# Altium integrated library Renesas Microprocessor SuperH.IntLib: 433 symbols (part 42 of 62)
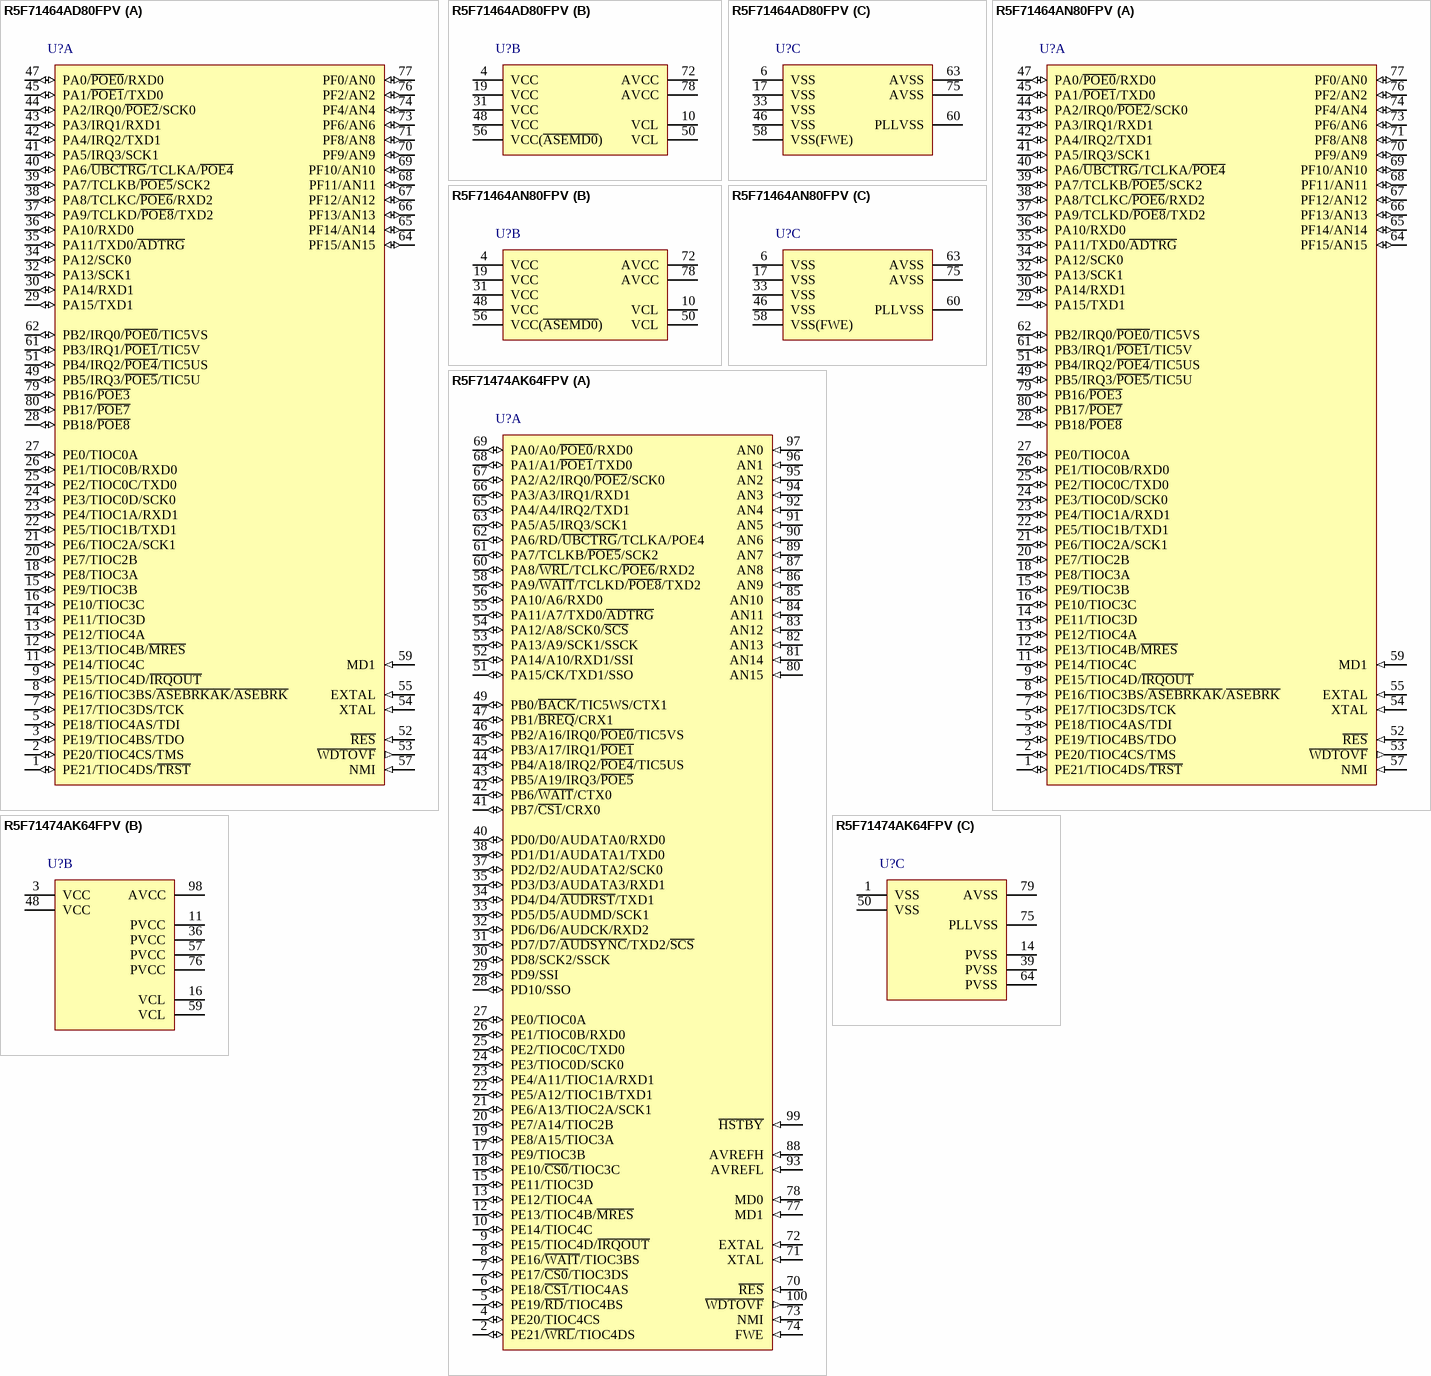
[diagram p406: symbols R5F71464AD80FPV to R5F71474AK64FPV]

## R5F71464AD80FPV
designator U?
32-Bit RISC Microcomputer, SH7146 Series, SH-2 core, 80MHz, 256K ROM, 8K RAM, PLQP0080JA-A (FP-80WV) Package, -40 to 85°C; Published: 28-Aug-2009; DatasheetVersion: Rev.3.00, May-2007; PackageVersion: Sep-2005; PackageReference: PLQP0080JA-A; Publisher: Altium Limited; PackageDescription: 80-Pin Plastic Low Profile QFP, 14 x 14 x 1.4 mm Body, 0.65 mm Pitch; Code_JEITA: P-LQFP80-14x14-0.65; ComponentLink1Description: Manufacturer Link; ComponentLink1URL: http://www.renesas.com/fmwk.jsp?cnt=sh7146_root.jsp&fp=/products/mpumcu/superh_family/sh7146_series/sh7146_group/; ComponentLink2Description: Datasheet; ComponentLink2URL: http://documentation.renesas.com/eng/products/mpumcu/rej09b0229_sh7146hm.pdf; ComponentLink3Description: Packaging Specification; ComponentLink3URL: http://sg.renesas.com/media/products/common_info/package/pdf/ic/code/plqp0080ja_a.pdf
footprint PLQP0080JA-A_N (QFP, 80-Leads, Body 14x14mm, Pitch 0.65mm, IPC Medium Density)
footprint PLQP0080JA-A_L (QFP, 80-Leads, Body 14x14mm, Pitch 0.65mm, IPC High Density)
footprint PLQP0080JA-A_M (QFP, 80-Leads, Body 14x14mm, Pitch 0.65mm, IPC Low Density)
part A pins: 1 PE21/TIOC4DS/~{TRST} (io), 2 PE20/TIOC4CS/TMS (io), 3 PE19/TIOC4BS/TDO (io), 5 PE18/TIOC4AS/TDI (io), 7 PE17/TIOC3DS/TCK (io), 8 PE16/TIOC3BS/~{ASEBRKAK}/~{ASEBRK} (io), 9 PE15/TIOC4D/~{IRQOUT} (io), 11 PE14/TIOC4C (io), 12 PE13/TIOC4B/~{MRES} (io), 13 PE12/TIOC4A (io), 14 PE11/TIOC3D (io), 15 PE9/TIOC3B (io), 16 PE10/TIOC3C (io), 18 PE8/TIOC3A (io), 20 PE7/TIOC2B (io), 21 PE6/TIOC2A/SCK1 (io), 22 PE5/TIOC1B/TXD1 (io), 23 PE4/TIOC1A/RXD1 (io), 24 PE3/TIOC0D/SCK0 (io), 25 PE2/TIOC0C/TXD0 (io), 26 PE1/TIOC0B/RXD0 (io), 27 PE0/TIOC0A (io), 28 PB18/~{POE8} (io), 29 PA15/TXD1 (io), 30 PA14/RXD1 (io), 32 PA13/SCK1 (io), 34 PA12/SCK0 (io), 35 PA11/TXD0/~{ADTRG} (io), 36 PA10/RXD0 (io), 37 PA9/TCLKD/~{POE8}/TXD2 (io), 38 PA8/TCLKC/~{POE6}/RXD2 (io), 39 PA7/TCLKB/~{POE5}/SCK2 (io), 40 PA6/~{UBCTRG}/TCLKA/~{POE4} (io), 41 PA5/IRQ3/SCK1 (io), 42 PA4/IRQ2/TXD1 (io), 43 PA3/IRQ1/RXD1 (io), 44 PA2/IRQ0/~{POE2}/SCK0 (io), 45 PA1/~{POE1}/TXD0 (io), 47 PA0/~{POE0}/RXD0 (io), 49 PB5/IRQ3/~{POE5}/TIC5U (io), 51 PB4/IRQ2/~{POE4}/TIC5US (io), 52 ~{RES} (in), 53 ~{WDTOVF} (out), 54 XTAL (in), 55 EXTAL (in), 57 NMI (in), 59 MD1 (in), 61 PB3/IRQ1/~{POE1}/TIC5V (io), 62 PB2/IRQ0/~{POE0}/TIC5VS (io), 64 PF15/AN15 (io), 65 PF14/AN14 (io), 66 PF13/AN13 (io), 67 PF12/AN12 (io), 68 PF11/AN11 (io), 69 PF10/AN10 (io), 70 PF9/AN9 (io), 71 PF8/AN8 (io), 73 PF6/AN6 (io), 74 PF4/AN4 (io), 76 PF2/AN2 (io), 77 PF0/AN0 (io), 79 PB16/~{POE3} (io), 80 PB17/~{POE7} (io)
part B pins: 4 VCC (power), 10 VCL (power), 19 VCC (power), 31 VCC (power), 48 VCC (power), 50 VCL (power), 56 VCC(~{ASEMD0}) (power), 72 AVCC (power), 78 AVCC (power)
part C pins: 6 VSS (power), 17 VSS (power), 33 VSS (power), 46 VSS (power), 58 VSS(FWE) (power), 60 PLLVSS (power), 63 AVSS (power), 75 AVSS (power)

## R5F71464AN80FPV
designator U?
32-Bit RISC Microcomputer, SH7146 Series, SH-2 core, 80MHz, 256K ROM, 8K RAM, PLQP0080JA-A (FP-80WV) Package, -20 to 85°C; Published: 28-Aug-2009; DatasheetVersion: Rev.3.00, May-2007; PackageVersion: Sep-2005; PackageReference: PLQP0080JA-A; Publisher: Altium Limited; PackageDescription: 80-Pin Plastic Low Profile QFP, 14 x 14 x 1.4 mm Body, 0.65 mm Pitch; Code_JEITA: P-LQFP80-14x14-0.65; ComponentLink1Description: Manufacturer Link; ComponentLink1URL: http://www.renesas.com/fmwk.jsp?cnt=sh7146_root.jsp&fp=/products/mpumcu/superh_family/sh7146_series/sh7146_group/; ComponentLink2Description: Datasheet; ComponentLink2URL: http://documentation.renesas.com/eng/products/mpumcu/rej09b0229_sh7146hm.pdf; ComponentLink3Description: Packaging Specification; ComponentLink3URL: http://sg.renesas.com/media/products/common_info/package/pdf/ic/code/plqp0080ja_a.pdf
footprint PLQP0080JA-A_N (QFP, 80-Leads, Body 14x14mm, Pitch 0.65mm, IPC Medium Density)
footprint PLQP0080JA-A_L (QFP, 80-Leads, Body 14x14mm, Pitch 0.65mm, IPC High Density)
footprint PLQP0080JA-A_M (QFP, 80-Leads, Body 14x14mm, Pitch 0.65mm, IPC Low Density)
part A pins: 1 PE21/TIOC4DS/~{TRST} (io), 2 PE20/TIOC4CS/TMS (io), 3 PE19/TIOC4BS/TDO (io), 5 PE18/TIOC4AS/TDI (io), 7 PE17/TIOC3DS/TCK (io), 8 PE16/TIOC3BS/~{ASEBRKAK}/~{ASEBRK} (io), 9 PE15/TIOC4D/~{IRQOUT} (io), 11 PE14/TIOC4C (io), 12 PE13/TIOC4B/~{MRES} (io), 13 PE12/TIOC4A (io), 14 PE11/TIOC3D (io), 15 PE9/TIOC3B (io), 16 PE10/TIOC3C (io), 18 PE8/TIOC3A (io), 20 PE7/TIOC2B (io), 21 PE6/TIOC2A/SCK1 (io), 22 PE5/TIOC1B/TXD1 (io), 23 PE4/TIOC1A/RXD1 (io), 24 PE3/TIOC0D/SCK0 (io), 25 PE2/TIOC0C/TXD0 (io), 26 PE1/TIOC0B/RXD0 (io), 27 PE0/TIOC0A (io), 28 PB18/~{POE8} (io), 29 PA15/TXD1 (io), 30 PA14/RXD1 (io), 32 PA13/SCK1 (io), 34 PA12/SCK0 (io), 35 PA11/TXD0/~{ADTRG} (io), 36 PA10/RXD0 (io), 37 PA9/TCLKD/~{POE8}/TXD2 (io), 38 PA8/TCLKC/~{POE6}/RXD2 (io), 39 PA7/TCLKB/~{POE5}/SCK2 (io), 40 PA6/~{UBCTRG}/TCLKA/~{POE4} (io), 41 PA5/IRQ3/SCK1 (io), 42 PA4/IRQ2/TXD1 (io), 43 PA3/IRQ1/RXD1 (io), 44 PA2/IRQ0/~{POE2}/SCK0 (io), 45 PA1/~{POE1}/TXD0 (io), 47 PA0/~{POE0}/RXD0 (io), 49 PB5/IRQ3/~{POE5}/TIC5U (io), 51 PB4/IRQ2/~{POE4}/TIC5US (io), 52 ~{RES} (in), 53 ~{WDTOVF} (out), 54 XTAL (in), 55 EXTAL (in), 57 NMI (in), 59 MD1 (in), 61 PB3/IRQ1/~{POE1}/TIC5V (io), 62 PB2/IRQ0/~{POE0}/TIC5VS (io), 64 PF15/AN15 (io), 65 PF14/AN14 (io), 66 PF13/AN13 (io), 67 PF12/AN12 (io), 68 PF11/AN11 (io), 69 PF10/AN10 (io), 70 PF9/AN9 (io), 71 PF8/AN8 (io), 73 PF6/AN6 (io), 74 PF4/AN4 (io), 76 PF2/AN2 (io), 77 PF0/AN0 (io), 79 PB16/~{POE3} (io), 80 PB17/~{POE7} (io)
part B pins: 4 VCC (power), 10 VCL (power), 19 VCC (power), 31 VCC (power), 48 VCC (power), 50 VCL (power), 56 VCC(~{ASEMD0}) (power), 72 AVCC (power), 78 AVCC (power)
part C pins: 6 VSS (power), 17 VSS (power), 33 VSS (power), 46 VSS (power), 58 VSS(FWE) (power), 60 PLLVSS (power), 63 AVSS (power), 75 AVSS (power)

## R5F71474AK64FPV
designator U?
32-Bit RISC Microcomputer, SH7147 Series, SH-2 core, 64MHz, 256K ROM, 12K RAM, 100-pin PLQFP, -40 to 125°C; Published: 28-Aug-2009; DatasheetVersion: Rev.3.00, Oct-2008; PackageVersion: Sep-2005; PackageReference: PLQP0100KB-A; Publisher: Altium Limited; PackageDescription: 100-Pin Plastic Low Profile QFP, 14 x 14 x 1.4 mm Body, 0.5 mm Pitch; Code_JEITA: P-LQFP100-14x14-0.50; Code_IPC: SQFP50P1600X1600-100; ComponentLink1Description: Manufacturer Link; ComponentLink1URL: http://www.renesas.com/fmwk.jsp?cnt=sh7147_root.jsp&fp=/products/mpumcu/superh_family/sh7147_series/sh7147_group/; ComponentLink2Description: Datasheet; ComponentLink2URL: http://documentation.renesas.com/eng/products/mpumcu/rej09b0230_sh7147hm.pdf; ComponentLink3Description: Packaging Specification; ComponentLink3URL: http://sg.renesas.com/media/products/common_info/package/pdf/ic/code/plqp0100kb_a.pdf
footprint PLQP0100KB-A_N (Shrink QFP, 100-Leads, Body 14x14mm, Pitch 0.5mm, IPC Medium Density)
footprint PLQP0100KB-A_L (Shrink QFP, 100-Leads, Body 14x14mm, Pitch 0.5mm, IPC High Density)
footprint PLQP0100KB-A_M (Shrink QFP, 100-Leads, Body 14x14mm, Pitch 0.5mm, IPC Low Density)
part A pins: 2 PE21/~{WRL}/TIOC4DS (io), 4 PE20/TIOC4CS (io), 5 PE19/~{RD}/TIOC4BS (io), 6 PE18/~{CS1}/TIOC4AS (io), 7 PE17/~{CS0}/TIOC3DS (io), 8 PE16/~{WAIT}/TIOC3BS (io), 9 PE15/TIOC4D/~{IRQOUT} (io), 10 PE14/TIOC4C (io), 12 PE13/TIOC4B/~{MRES} (io), 13 PE12/TIOC4A (io), 15 PE11/TIOC3D (io), 17 PE9/TIOC3B (io), 18 PE10/~{CS0}/TIOC3C (io), 19 PE8/A15/TIOC3A (io), 20 PE7/A14/TIOC2B (io), 21 PE6/A13/TIOC2A/SCK1 (io), 22 PE5/A12/TIOC1B/TXD1 (io), 23 PE4/A11/TIOC1A/RXD1 (io), 24 PE3/TIOC0D/SCK0 (io), 25 PE2/TIOC0C/TXD0 (io), 26 PE1/TIOC0B/RXD0 (io), 27 PE0/TIOC0A (io), 28 PD10/SSO (io), 29 PD9/SSI (io), 30 PD8/SCK2/SSCK (io), 31 PD7/D7/~{AUDSYNC}/TXD2/~{SCS} (io), 32 PD6/D6/AUDCK/RXD2 (io), 33 PD5/D5/AUDMD/SCK1 (io), 34 PD4/D4/~{AUDRST}/TXD1 (io), 35 PD3/D3/AUDATA3/RXD1 (io), 37 PD2/D2/AUDATA2/SCK0 (io), 38 PD1/D1/AUDATA1/TXD0 (io), 40 PD0/D0/AUDATA0/RXD0 (io), 41 PB7/~{CS1}/CRX0 (io), 42 PB6/~{WAIT}/CTX0 (io), 43 PB5/A19/IRQ3/~{POE5} (io), 44 PB4/A18/IRQ2/~{POE4}/TIC5US (io), 45 PB3/A17/IRQ1/~{POE1} (io), 46 PB2/A16/IRQ0/~{POE0}/TIC5VS (io), 47 PB1/~{BREQ}/CRX1 (io), 49 PB0/~{BACK}/TIC5WS/CTX1 (io), 51 PA15/CK/TXD1/SSO (io), 52 PA14/A10/RXD1/SSI (io), 53 PA13/A9/SCK1/SSCK (io), 54 PA12/A8/SCK0/~{SCS} (io), 55 PA11/A7/TXD0/~{ADTRG} (io), 56 PA10/A6/RXD0 (io), 58 PA9/~{WAIT}/TCLKD/~{POE8}/TXD2 (io), 60 PA8/~{WRL}/TCLKC/~{POE6}/RXD2 (io), 61 PA7/TCLKB/~{POE5}/SCK2 (io), 62 PA6/RD/~{UBCTRG}/TCLKA/POE4 (io), 63 PA5/A5/IRQ3/SCK1 (io), 65 PA4/A4/IRQ2/TXD1 (io), 66 PA3/A3/IRQ1/RXD1 (io), 67 PA2/A2/IRQ0/~{POE2}/SCK0 (io), 68 PA1/A1/~{POE1}/TXD0 (io), 69 PA0/A0/~{POE0}/RXD0 (io), 70 ~{RES} (in), 71 XTAL (in), 72 EXTAL (in), 73 NMI (in), 74 FWE (in), 77 MD1 (in), 78 MD0 (in), 80 AN15 (in), 81 AN14 (in), 82 AN13 (in), 83 AN12 (in), 84 AN11 (in), 85 AN10 (in), 86 AN9 (in), 87 AN8 (in), 88 AVREFH (in), 89 AN7 (in), 90 AN6 (in), 91 AN5 (in), 92 AN4 (in), 93 AVREFL (in), 94 AN3 (in), 95 AN2 (in), 96 AN1 (in), 97 AN0 (in), 99 ~{HSTBY} (in), 100 ~{WDTOVF} (out)
part B pins: 3 VCC (power), 11 PVCC (power), 16 VCL (power), 36 PVCC (power), 48 VCC (power), 57 PVCC (power), 59 VCL (power), 76 PVCC (power), 98 AVCC (power)
part C pins: 1 VSS (power), 14 PVSS (power), 39 PVSS (power), 50 VSS (power), 64 PVSS (power), 75 PLLVSS (power), 79 AVSS (power)

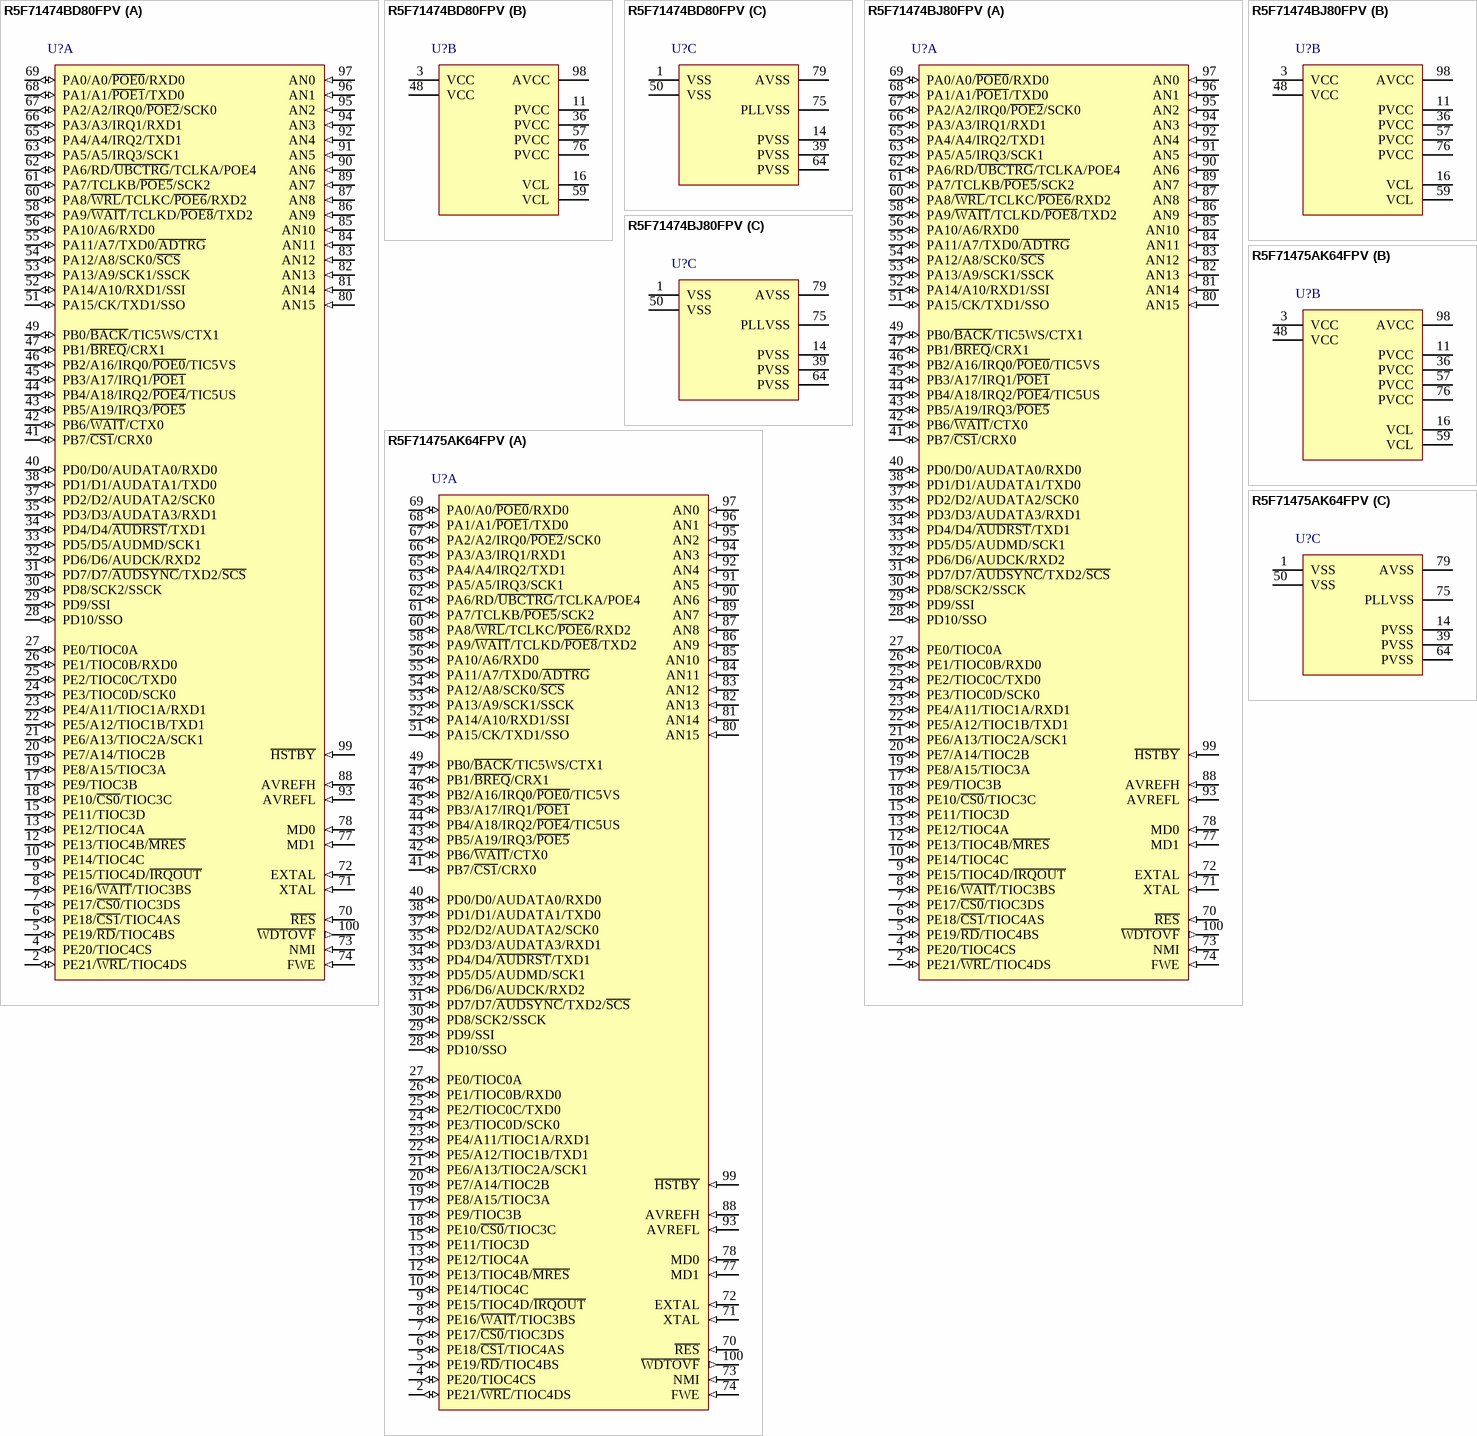
[diagram p154: symbols R5F71474BD80FPV to R5F71475AK64FPV]

## R5F71474BD80FPV
designator U?
32-Bit RISC Microcomputer, SH7147 Series, SH-2 core, 80MHz, 256K ROM, 16K RAM, 100-pin PLQFP, -40 to 85°C; Published: 28-Aug-2009; DatasheetVersion: Rev.3.00, Oct-2008; PackageVersion: Sep-2005; PackageReference: PLQP0100KB-A; Publisher: Altium Limited; PackageDescription: 100-Pin Plastic Low Profile QFP, 14 x 14 x 1.4 mm Body, 0.5 mm Pitch; Code_JEITA: P-LQFP100-14x14-0.50; Code_IPC: SQFP50P1600X1600-100; ComponentLink1Description: Manufacturer Link; ComponentLink1URL: http://www.renesas.com/fmwk.jsp?cnt=sh7147_root.jsp&fp=/products/mpumcu/superh_family/sh7147_series/sh7147_group/; ComponentLink2Description: Datasheet; ComponentLink2URL: http://documentation.renesas.com/eng/products/mpumcu/rej09b0230_sh7147hm.pdf; ComponentLink3Description: Packaging Specification; ComponentLink3URL: http://sg.renesas.com/media/products/common_info/package/pdf/ic/code/plqp0100kb_a.pdf
footprint PLQP0100KB-A_N (Shrink QFP, 100-Leads, Body 14x14mm, Pitch 0.5mm, IPC Medium Density)
footprint PLQP0100KB-A_L (Shrink QFP, 100-Leads, Body 14x14mm, Pitch 0.5mm, IPC High Density)
footprint PLQP0100KB-A_M (Shrink QFP, 100-Leads, Body 14x14mm, Pitch 0.5mm, IPC Low Density)
part A pins: 2 PE21/~{WRL}/TIOC4DS (io), 4 PE20/TIOC4CS (io), 5 PE19/~{RD}/TIOC4BS (io), 6 PE18/~{CS1}/TIOC4AS (io), 7 PE17/~{CS0}/TIOC3DS (io), 8 PE16/~{WAIT}/TIOC3BS (io), 9 PE15/TIOC4D/~{IRQOUT} (io), 10 PE14/TIOC4C (io), 12 PE13/TIOC4B/~{MRES} (io), 13 PE12/TIOC4A (io), 15 PE11/TIOC3D (io), 17 PE9/TIOC3B (io), 18 PE10/~{CS0}/TIOC3C (io), 19 PE8/A15/TIOC3A (io), 20 PE7/A14/TIOC2B (io), 21 PE6/A13/TIOC2A/SCK1 (io), 22 PE5/A12/TIOC1B/TXD1 (io), 23 PE4/A11/TIOC1A/RXD1 (io), 24 PE3/TIOC0D/SCK0 (io), 25 PE2/TIOC0C/TXD0 (io), 26 PE1/TIOC0B/RXD0 (io), 27 PE0/TIOC0A (io), 28 PD10/SSO (io), 29 PD9/SSI (io), 30 PD8/SCK2/SSCK (io), 31 PD7/D7/~{AUDSYNC}/TXD2/~{SCS} (io), 32 PD6/D6/AUDCK/RXD2 (io), 33 PD5/D5/AUDMD/SCK1 (io), 34 PD4/D4/~{AUDRST}/TXD1 (io), 35 PD3/D3/AUDATA3/RXD1 (io), 37 PD2/D2/AUDATA2/SCK0 (io), 38 PD1/D1/AUDATA1/TXD0 (io), 40 PD0/D0/AUDATA0/RXD0 (io), 41 PB7/~{CS1}/CRX0 (io), 42 PB6/~{WAIT}/CTX0 (io), 43 PB5/A19/IRQ3/~{POE5} (io), 44 PB4/A18/IRQ2/~{POE4}/TIC5US (io), 45 PB3/A17/IRQ1/~{POE1} (io), 46 PB2/A16/IRQ0/~{POE0}/TIC5VS (io), 47 PB1/~{BREQ}/CRX1 (io), 49 PB0/~{BACK}/TIC5WS/CTX1 (io), 51 PA15/CK/TXD1/SSO (io), 52 PA14/A10/RXD1/SSI (io), 53 PA13/A9/SCK1/SSCK (io), 54 PA12/A8/SCK0/~{SCS} (io), 55 PA11/A7/TXD0/~{ADTRG} (io), 56 PA10/A6/RXD0 (io), 58 PA9/~{WAIT}/TCLKD/~{POE8}/TXD2 (io), 60 PA8/~{WRL}/TCLKC/~{POE6}/RXD2 (io), 61 PA7/TCLKB/~{POE5}/SCK2 (io), 62 PA6/RD/~{UBCTRG}/TCLKA/POE4 (io), 63 PA5/A5/IRQ3/SCK1 (io), 65 PA4/A4/IRQ2/TXD1 (io), 66 PA3/A3/IRQ1/RXD1 (io), 67 PA2/A2/IRQ0/~{POE2}/SCK0 (io), 68 PA1/A1/~{POE1}/TXD0 (io), 69 PA0/A0/~{POE0}/RXD0 (io), 70 ~{RES} (in), 71 XTAL (in), 72 EXTAL (in), 73 NMI (in), 74 FWE (in), 77 MD1 (in), 78 MD0 (in), 80 AN15 (in), 81 AN14 (in), 82 AN13 (in), 83 AN12 (in), 84 AN11 (in), 85 AN10 (in), 86 AN9 (in), 87 AN8 (in), 88 AVREFH (in), 89 AN7 (in), 90 AN6 (in), 91 AN5 (in), 92 AN4 (in), 93 AVREFL (in), 94 AN3 (in), 95 AN2 (in), 96 AN1 (in), 97 AN0 (in), 99 ~{HSTBY} (in), 100 ~{WDTOVF} (out)
part B pins: 3 VCC (power), 11 PVCC (power), 16 VCL (power), 36 PVCC (power), 48 VCC (power), 57 PVCC (power), 59 VCL (power), 76 PVCC (power), 98 AVCC (power)
part C pins: 1 VSS (power), 14 PVSS (power), 39 PVSS (power), 50 VSS (power), 64 PVSS (power), 75 PLLVSS (power), 79 AVSS (power)

## R5F71474BJ80FPV
designator U?
32-Bit RISC Microcomputer, SH7147 Series, SH-2 core, 80MHz, 256K ROM, 16K RAM, 100-pin PLQFP, -40 to 85°C; Published: 28-Aug-2009; DatasheetVersion: Rev.3.00, Oct-2008; PackageVersion: Sep-2005; PackageReference: PLQP0100KB-A; Publisher: Altium Limited; PackageDescription: 100-Pin Plastic Low Profile QFP, 14 x 14 x 1.4 mm Body, 0.5 mm Pitch; Code_JEITA: P-LQFP100-14x14-0.50; Code_IPC: SQFP50P1600X1600-100; ComponentLink1Description: Manufacturer Link; ComponentLink1URL: http://www.renesas.com/fmwk.jsp?cnt=sh7147_root.jsp&fp=/products/mpumcu/superh_family/sh7147_series/sh7147_group/; ComponentLink2Description: Datasheet; ComponentLink2URL: http://documentation.renesas.com/eng/products/mpumcu/rej09b0230_sh7147hm.pdf; ComponentLink3Description: Packaging Specification; ComponentLink3URL: http://sg.renesas.com/media/products/common_info/package/pdf/ic/code/plqp0100kb_a.pdf
footprint PLQP0100KB-A_N (Shrink QFP, 100-Leads, Body 14x14mm, Pitch 0.5mm, IPC Medium Density)
footprint PLQP0100KB-A_L (Shrink QFP, 100-Leads, Body 14x14mm, Pitch 0.5mm, IPC High Density)
footprint PLQP0100KB-A_M (Shrink QFP, 100-Leads, Body 14x14mm, Pitch 0.5mm, IPC Low Density)
part A pins: 2 PE21/~{WRL}/TIOC4DS (io), 4 PE20/TIOC4CS (io), 5 PE19/~{RD}/TIOC4BS (io), 6 PE18/~{CS1}/TIOC4AS (io), 7 PE17/~{CS0}/TIOC3DS (io), 8 PE16/~{WAIT}/TIOC3BS (io), 9 PE15/TIOC4D/~{IRQOUT} (io), 10 PE14/TIOC4C (io), 12 PE13/TIOC4B/~{MRES} (io), 13 PE12/TIOC4A (io), 15 PE11/TIOC3D (io), 17 PE9/TIOC3B (io), 18 PE10/~{CS0}/TIOC3C (io), 19 PE8/A15/TIOC3A (io), 20 PE7/A14/TIOC2B (io), 21 PE6/A13/TIOC2A/SCK1 (io), 22 PE5/A12/TIOC1B/TXD1 (io), 23 PE4/A11/TIOC1A/RXD1 (io), 24 PE3/TIOC0D/SCK0 (io), 25 PE2/TIOC0C/TXD0 (io), 26 PE1/TIOC0B/RXD0 (io), 27 PE0/TIOC0A (io), 28 PD10/SSO (io), 29 PD9/SSI (io), 30 PD8/SCK2/SSCK (io), 31 PD7/D7/~{AUDSYNC}/TXD2/~{SCS} (io), 32 PD6/D6/AUDCK/RXD2 (io), 33 PD5/D5/AUDMD/SCK1 (io), 34 PD4/D4/~{AUDRST}/TXD1 (io), 35 PD3/D3/AUDATA3/RXD1 (io), 37 PD2/D2/AUDATA2/SCK0 (io), 38 PD1/D1/AUDATA1/TXD0 (io), 40 PD0/D0/AUDATA0/RXD0 (io), 41 PB7/~{CS1}/CRX0 (io), 42 PB6/~{WAIT}/CTX0 (io), 43 PB5/A19/IRQ3/~{POE5} (io), 44 PB4/A18/IRQ2/~{POE4}/TIC5US (io), 45 PB3/A17/IRQ1/~{POE1} (io), 46 PB2/A16/IRQ0/~{POE0}/TIC5VS (io), 47 PB1/~{BREQ}/CRX1 (io), 49 PB0/~{BACK}/TIC5WS/CTX1 (io), 51 PA15/CK/TXD1/SSO (io), 52 PA14/A10/RXD1/SSI (io), 53 PA13/A9/SCK1/SSCK (io), 54 PA12/A8/SCK0/~{SCS} (io), 55 PA11/A7/TXD0/~{ADTRG} (io), 56 PA10/A6/RXD0 (io), 58 PA9/~{WAIT}/TCLKD/~{POE8}/TXD2 (io), 60 PA8/~{WRL}/TCLKC/~{POE6}/RXD2 (io), 61 PA7/TCLKB/~{POE5}/SCK2 (io), 62 PA6/RD/~{UBCTRG}/TCLKA/POE4 (io), 63 PA5/A5/IRQ3/SCK1 (io), 65 PA4/A4/IRQ2/TXD1 (io), 66 PA3/A3/IRQ1/RXD1 (io), 67 PA2/A2/IRQ0/~{POE2}/SCK0 (io), 68 PA1/A1/~{POE1}/TXD0 (io), 69 PA0/A0/~{POE0}/RXD0 (io), 70 ~{RES} (in), 71 XTAL (in), 72 EXTAL (in), 73 NMI (in), 74 FWE (in), 77 MD1 (in), 78 MD0 (in), 80 AN15 (in), 81 AN14 (in), 82 AN13 (in), 83 AN12 (in), 84 AN11 (in), 85 AN10 (in), 86 AN9 (in), 87 AN8 (in), 88 AVREFH (in), 89 AN7 (in), 90 AN6 (in), 91 AN5 (in), 92 AN4 (in), 93 AVREFL (in), 94 AN3 (in), 95 AN2 (in), 96 AN1 (in), 97 AN0 (in), 99 ~{HSTBY} (in), 100 ~{WDTOVF} (out)
part B pins: 3 VCC (power), 11 PVCC (power), 16 VCL (power), 36 PVCC (power), 48 VCC (power), 57 PVCC (power), 59 VCL (power), 76 PVCC (power), 98 AVCC (power)
part C pins: 1 VSS (power), 14 PVSS (power), 39 PVSS (power), 50 VSS (power), 64 PVSS (power), 75 PLLVSS (power), 79 AVSS (power)